# Altium schematic symbol library Schlib_circuit_de_puissance.SchLib: 10 symbols
Pins are listed as number, name and electrical type; pins without a type are passive.

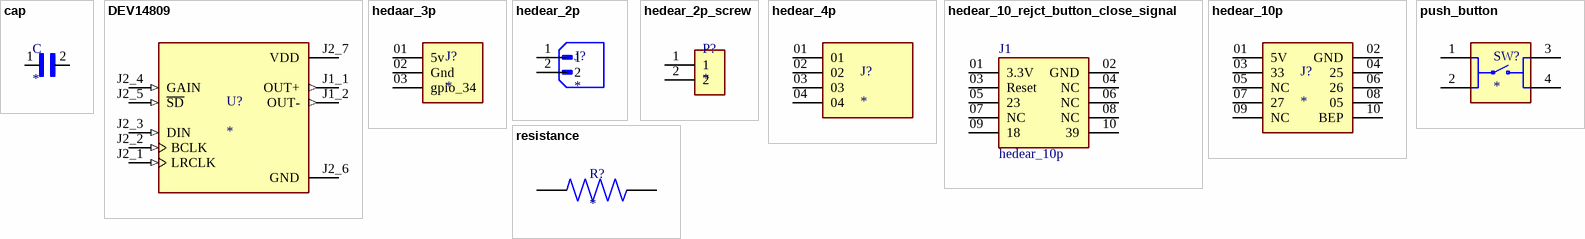
[diagram p0: symbols cap to resistance]

## cap
designator C
Lead Capacitor X7R_EIA_ with Capacitance: 0.10F and Rated Voltage: 1000Vdc; MF: Murata; MP: RDER73A104K5E1H03A; Value: *; Price: None; SnapEDA_Link: https://www.snapeda.com/parts/RDER73A104K5E1H03A/Murata/view-part/4545952/?ref=snap; Package: Radial Murata; Availability: Unavailable
footprint cap
pins: 1, 2

## DEV14809
designator U?
MAX98357A Audio Interface Audio - Platform Evaluation Expansion Board; MF: Sparkfun Electronics; MP: DEV14809; SnapEDA_Link: https://www.snapeda.com/parts/DEV14809/SparkFun+Electronics/view-part/?ref=snap; Package: None; Value: *; Check_prices: https://www.snapeda.com/parts/DEV14809/SparkFun+Electronics/view-part/?ref=eda
footprint MODULEson_DEV14809
pins: J1_1 OUT+ (out), J1_2 OUT- (out), J2_1 LRCLK (in), J2_2 BCLK (in), J2_3 DIN (in), J2_4 GAIN (in), J2_5 ~{SD} (in), J2_6 GND (power), J2_7 VDD (power)

## hedaar_3p
designator J?
Headers & Wire Housings; MP: HMTSW-103-13-L-S-100; MF: Samtec; Package: None; SnapEDA_Link: https://www.snapeda.com/parts/HMTSW-103-13-L-S-100/Samtec/view-part/?ref=snap; Value: *; Availability: In Stock; Price: None; Check_prices: https://www.snapeda.com/parts/HMTSW-103-13-L-S-100/Samtec/view-part/?ref=eda
footprint pcb_hedaar_3p
pins: 01 5v, 02 Gnd, 03 gpio_34

## hedear_2p
designator J?
MF: {'manufacturer': u'JST Sales America Inc.'}; MP: B2B-XH-A; Package: None; Price: None; Value: *; Availability: Unavailable
footprint pcb_headear_2p
pins: 1, 2

## hedear_2p_screw
designator P?
MF: TE Connectivity; MP: 282837-2; SnapEDA_Link: https://www.snapeda.com/parts/282837-2/TE+Connectivity+AMP+Connectors/view-part/?ref=snap; Price: None; Check_prices: https://www.snapeda.com/parts/282837-2/TE+Connectivity+AMP+Connectors/view-part/?ref=eda; Purchase-URL: https://pricing.snapeda.com/search/part/282837-2/?ref=eda; Value: *; Availability: In Stock; Package: None
footprint hedear_2p_screw
pins: 1, 2

## hedear_4p
designator J?
MP: MTSW-104-11-G-S-340; Price: None; Availability: Unavailable; Value: *; Package: None
footprint hedaer_4p_pcb
pins: 01, 02, 03, 04

## hedear_10_rejct_button_close_signal
designator J1, comment hedear_10p
MP: TSS-105-02-L-D; Package: None; Price: None; Value: *; Availability: Unavailable
footprint hedear10p
pins: 01 3.3V, 02 GND, 03 Reset, 04 NC, 05 23, 06 NC, 07 NC, 08 NC, 09 18, 10 39

## hedear_10p
designator J?
MP: TSS-105-02-L-D; Package: None; Price: None; Value: *; Availability: Unavailable
footprint hedear10p
pins: 01 5V, 02 GND, 03 33, 04 25, 05 NC, 06 26, 07 27, 08 05, 09 NC, 10 BEP

## push_button
designator SW?
Switch Push Button OFF (ON) SPST Round Button 0.05A 24VDC Momentary Contact PC Pins Thru-Hole; MP: 1825910-6; MF: TE Connectivity; Value: *; Package: None; Check_prices: https://www.snapeda.com/parts/1825910-6/TE+Connectivity+ALCOSWITCH+Switches/view-part/?ref=eda; SnapEDA_Link: https://www.snapeda.com/parts/1825910-6/TE+Connectivity+ALCOSWITCH+Switches/view-part/?ref=snap; Digi-Key_Part_Number: 450-1650-ND; Purchase-URL: https://pricing.snapeda.com/search/part/1825910-6/?ref=eda
footprint push_button_pcb
pins: 1, 2, 3, 4

## resistance
designator R?
MP: CBT50J5R1; MF: TE Connectivity / AMP; Price: None; Availability: In Stock; Package: Axial TE Connectivity / AMP; Value: *; SnapEDA_Link: https://www.snapeda.com/parts/CBT50J5R1/TE+Connectivity+%252F+AMP/view-part/?ref=snap; Purchase-URL: https://pricing.snapeda.com/search/part/CBT50J5R1/?ref=eda; Check_prices: https://www.snapeda.com/parts/CBT50J5R1/TE+Connectivity+%252F+AMP/view-part/?ref=eda
footprint resistance
pins: 1, 2